# Altium footprint library TO127P1435X464-7.PcbLib: 1 footprints
Each footprint in its own frame and in the unit in brackets; x right, y up, seen from the top. Pads: shape width x height; smd on the part's side, far side on the other; paste and mask are expansions set on the pad; w line width, h text height; cw(c..) or ccw(c..) is an arc to the next point about the centre after c.
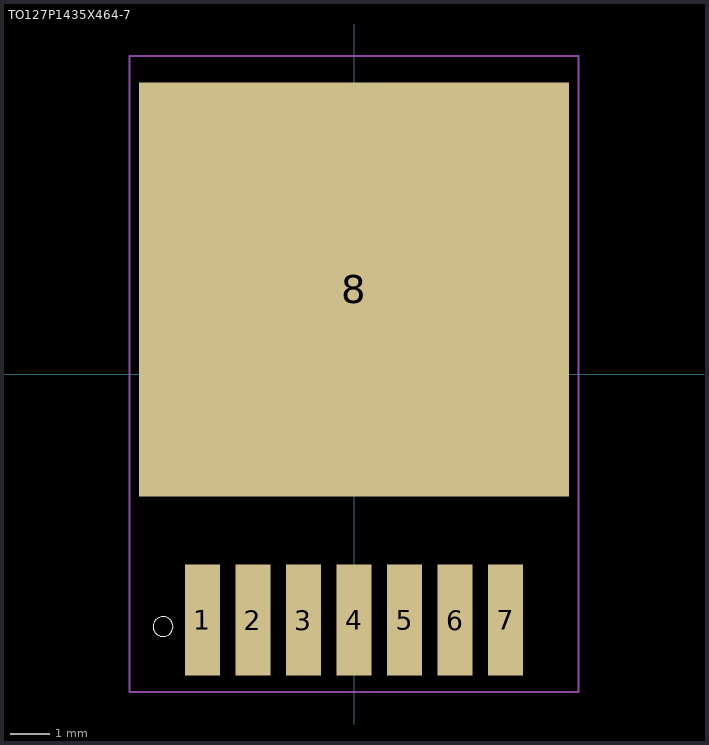
[diagram p0: the footprint, top view; thin cyan lines are the x and y axes]

## TO127P1435X464-7 [mm]
pads (8):
  rect 0.89x2.79 smd: 1(-3.81,-6.19) 2(-2.54,-6.19) 3(-1.27,-6.19) 4(0,-6.19) 5(1.27,-6.19) 6(2.54,-6.19) 7(3.81,-6.19)
  rect 10.8x10.41 smd: 8(0,2.13)
Top Overlay:
  circle w0: c-4.8,-6.35 r0.25
Mechanical 1:
  lines w0.05: -5.65,-8 -5.65,8 5.65,8 5.65,-8 -5.65,-8
  lines w0.127: -5.08,-2.575 -5.08,6.065 5.08,6.065 5.08,-2.575 -5.08,-2.575